# Altium schematic symbol library composants passifs.SchLib: 55 symbols
Pins are listed as number, name and electrical type; pins without a type are passive.

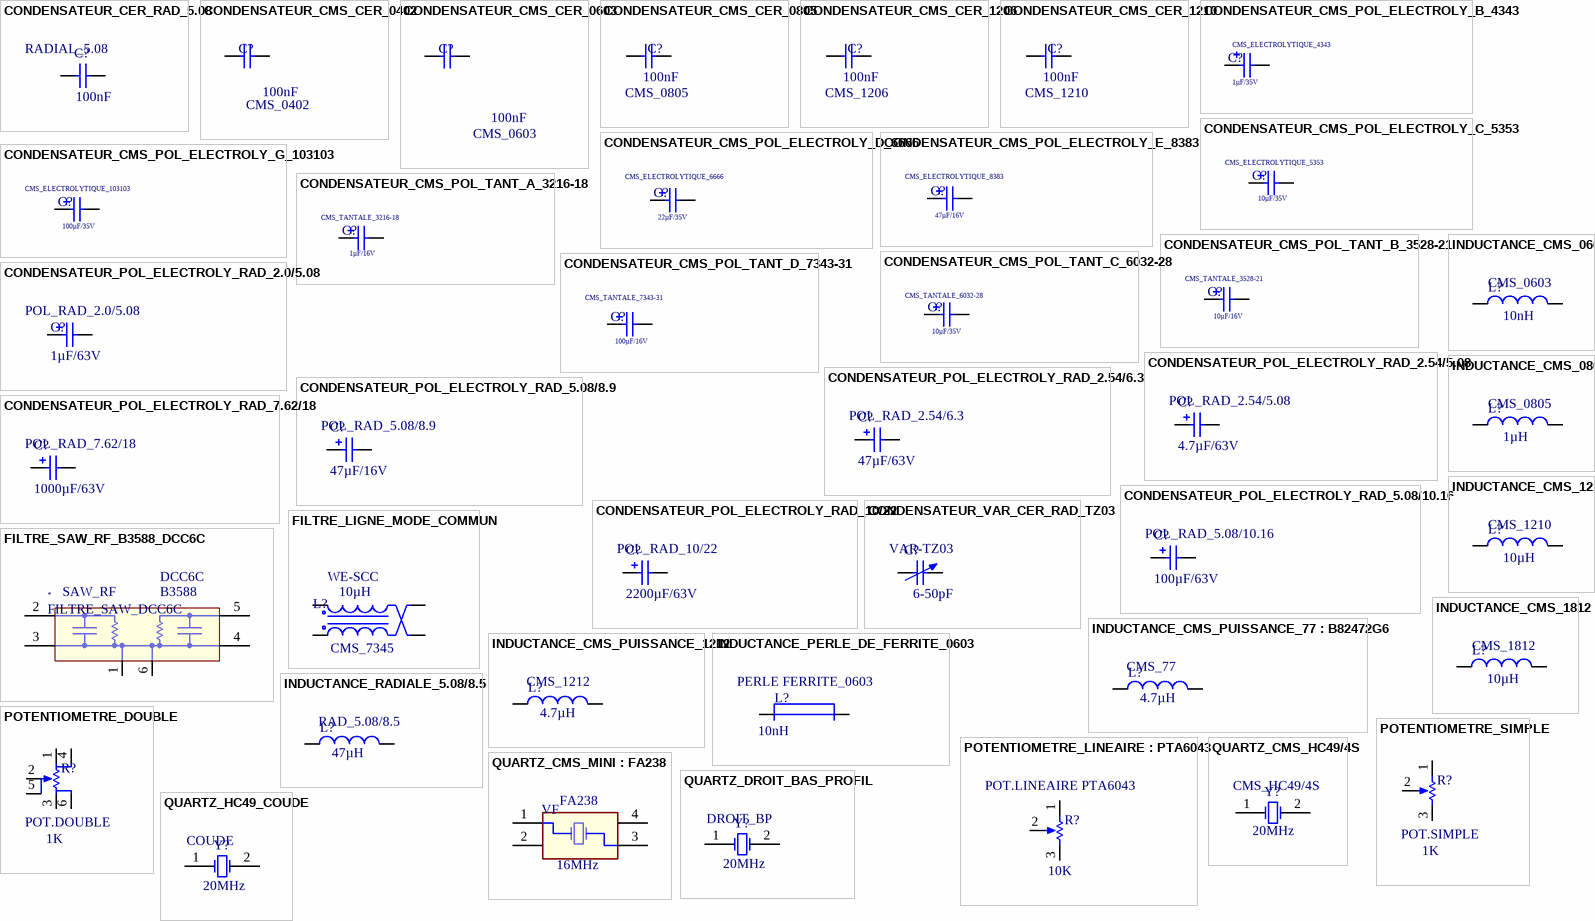
[diagram p0: symbols CONDENSATEUR_CER_RAD_5.08 to QUARTZ_HC49_COUDE]

## CONDENSATEUR_CER_RAD_5.08
designator C?  value 100nF  Type: RADIAL_5.08  (hidden comment: CONDENSATEUR_CER_RAD_5.08)
CONDENSATEUR TRAVERSANT CERAMIQUE RADIAL 5.08mm
simulation model CAP (Capacitor)
signal-integrity model Cap
footprint CONDENSATEUR_CERAMIQUE_RADIAL_5.08 (CONDENSATEUR TRAVERSANT CERAMIQUE RADIAL ; DIMENSIONS : 3.17mm x 5.08mm)
pins: 1, 2

## CONDENSATEUR_CMS_CER_0402
designator C?, comment value 100nF  (hidden comment: CMS_0402)
CONDENSATEUR CMS CERAMIQUE 0402; Type: CMS_0402
simulation model CAP (Capacitor)
signal-integrity model Cap
footprint CONDENSATEUR_CMS_0402 (CONDENSATEUR CMS  0402 ; DIMENSIONS : 1mm x 0.5mm)
pins: 1, 2

## CONDENSATEUR_CMS_CER_0603
designator C?, comment value 100nF  (hidden comment: CMS_0603)
CONDENSATEUR CMS CERAMIQUE 0603; Type: CMS_0603
simulation model CAP (Capacitor)
signal-integrity model Cap
footprint CONDENSATEUR_CMS_0603 (CONDENSATEUR CMS 0603 ; DIMENSIONS : 1.6mm x 0.86mm)
pins: 1, 2

## CONDENSATEUR_CMS_CER_0805
designator C?, comment value 100nF  (hidden comment: CMS_0805)
CONDENSATEUR CMS CERAMIQUE 0805; Type: CMS_0805
simulation model CAP (Capacitor)
signal-integrity model Cap
footprint CONDENSATEUR_CMS_0805 (CONDENSATEUR CMS 0805 ; DIMENSIONS : 2mm x 1.25mm)
footprint C0805_N (Chip Capacitor, Body 2.0x1.3mm, IPC Medium Density)
pins: 1, 2

## CONDENSATEUR_CMS_CER_1206
designator C?, comment value 100nF  (hidden comment: CMS_1206)
CONDENSATEUR CMS CERAMIQUE 1206; Type: CMS_1206
simulation model CAP (Capacitor)
signal-integrity model Cap
footprint CONDENSATEUR_CMS_1206 (CONDENSATEUR CMS 1206 ; DIMENSIONS : 3.2mm x 1.6mm)
pins: 1, 2

## CONDENSATEUR_CMS_CER_1210
designator C?, comment value 100nF  (hidden comment: CMS_1210)
CONDENSATEUR CMS CERAMIQUE 1210; Type: CMS_1210
simulation model CAP (Capacitor)
signal-integrity model Cap
footprint CONDENSATEUR_CMS_1210 (CONDENSATEUR CMS 1210 ; DIMENSIONS : 3.2mm x 2.5mm)
pins: 1, 2

## CONDENSATEUR_CMS_POL_ELECTROLY_B_4343
designator C?, comment value 1µF/35V  Type: CMS_ELECTROLYTIQUE_4343  (hidden comment: CMS_POLARISE_ELECTROLYTIQUE_B)
CONDENSATEUR CMS POLARISE ELECTROLYTIQUE BOITIER B/4343
simulation model CAP (Capacitor)
signal-integrity model Cap Pol
footprint CONDENSATEUR_CMS_POLARISE_ELECTROLYTIQUE_B/4343 (CONDENSATEUR CMS POLARISE ELECTROLYTIQUE B : 4.3mm x 4.3mm ; DIAMETRE : 4mm ; ESPACEMENT BROCHES : 4.3mm)
pins: 1, 2
1 alternate drawing of the same symbol

## CONDENSATEUR_CMS_POL_ELECTROLY_C_5353
designator C?, comment value 10µF/35V  Type: CMS_ELECTROLYTIQUE_5353  (hidden comment: CMS_POLARISE_ELECTROLYTIQUE_C)
CONDENSATEUR CMS POLARISE ELECTROLYTIQUE BOITIER C/5353
simulation model CAP (Capacitor)
signal-integrity model Cap Pol
footprint CONDENSATEUR_CMS_POLARISE_ELECTROLYTIQUE_C/5353 (CONDENSATEUR CMS POLARISE ELECTROLYTIQUE BOITIER C : 5.3mm x 5.3mm ; DIAMETRE : 4mm ; ESPACEMENT BROCHES : 4.9mm)
pins: 1, 2
1 alternate drawing of the same symbol

## CONDENSATEUR_CMS_POL_ELECTROLY_D_6666
designator C?, comment value 22µF/35V  Type: CMS_ELECTROLYTIQUE_6666  (hidden comment: CMS_POLARISE_ELECTROLYTIQUE_D)
CONDENSATEUR CMS POLARISE ELECTROLYTIQUE BOITIER D/6666
simulation model CAP (Capacitor)
signal-integrity model Cap Pol
footprint CONDENSATEUR_CMS_POLARISE_ELECTROLYTIQUE_D/6666 (CONDENSATEUR CMS POLARISE ELECTROLYTIQUE BOITIER D : 6.6mm x 6.6mm ; DIAMTRE : 6.3mm ; ESPACEMENT BROCHES : 5.7mm)
pins: 1, 2
1 alternate drawing of the same symbol

## CONDENSATEUR_CMS_POL_ELECTROLY_E_8383
designator C?, comment value 47µF/16V  Type: CMS_ELECTROLYTIQUE_8383  (hidden comment: CMS_POLARISE_ELECTROLYTIQUE_E)
CONDENSATEUR CMS POLARISE ELECTROLYTIQUE BOITIER E/8383
simulation model CAP (Capacitor)
signal-integrity model Cap Pol
footprint CONDENSATEUR_CMS_POLARISE_ELECTROLYTIQUE_E/8383 (CONDENSATEUR CMS POLARISE ELECTROLYTIQUE BOITIER E : 8.3mm x 8.3mm ; DIAMETRE : 8mm ; ESPACEMENT BROCHES : 7.62mm)
pins: 1, 2
1 alternate drawing of the same symbol

## CONDENSATEUR_CMS_POL_ELECTROLY_G_103103
designator C?, comment value 100µF/35V  Type: CMS_ELECTROLYTIQUE_103103  (hidden comment: CMS_POLARISE_ELECTROLYTIQUE_G)
CONDENSATEUR CMS POLARISE ELECTROLYTIQUE BOITIER G/103103
simulation model CAP (Capacitor)
signal-integrity model Cap Pol
footprint CONDENSATEUR_CMS_POLARISE_ELECTROLYTIQUE_G/103103 (CONDENSATEUR CMS POLARISE ELECTROLYTIQUE BOITIER G : 10.3mm x 10.3mm ; DIAMETRE : 8mm ; ESPACEMENT BROCHES : 7.62mm)
pins: 1, 2
1 alternate drawing of the same symbol

## CONDENSATEUR_CMS_POL_TANT_A_3216-18
designator C?, comment value 1µF/16V  Type: CMS_TANTALE_3216-18  (hidden comment: CMS_POLARISE_TANTALE_3216-18)
CONDENSATEUR CMS POLARISE TANTALE BOITIER A/3216-18
simulation model CAP (Capacitor)
signal-integrity model Cap Pol
footprint CONDENSATEUR_CMS_POLARISE_TANTALE_A/3216-18 (CONDENSATEUR CMS POLARISE TANTALE BOITIER A ; DIMENSIONS : 3.2mm x 1.6mm)
pins: 1, 2
1 alternate drawing of the same symbol

## CONDENSATEUR_CMS_POL_TANT_B_3528-21
designator C?, comment value 10µF/16V  Type: CMS_TANTALE_3528-21  (hidden comment: CMS_POLARISE_TANTALE_3528-21)
CONDENSATEUR CMS POLARISE TANTALE BOITIER B/3528-21
simulation model CAP (Capacitor)
signal-integrity model Cap Pol
footprint CONDENSATEUR_CMS_POLARISE_TANTALE_B/3528-21 (CONDENSATEUR CMS POLARISE TANTALE BOITIER B ; DIMENSIONS : 3.5mm x 2.8mm)
pins: 1, 2
1 alternate drawing of the same symbol

## CONDENSATEUR_CMS_POL_TANT_C_6032-28
designator C?, comment value 10µF/35V  Type: CMS_TANTALE_6032-28  (hidden comment: CMS_POLARISE_TANTALE_6032-28)
CONDENSATEUR CMS POLARISE TANTALE BOITIER C/6032-28
simulation model CAP (Capacitor)
signal-integrity model Cap Pol
footprint CONDENSATEUR_CMS_POLARISE_TANTALE_C/6032-28 (CONDENSATEUR CMS POLARISE TANTALE BOITIER C ; DIMENSIONS : 6mm x 3.2mm)
pins: 1, 2
1 alternate drawing of the same symbol

## CONDENSATEUR_CMS_POL_TANT_D_7343-31
designator C?, comment value 100µF/16V  Type: CMS_TANTALE_7343-31  (hidden comment: CMS_POLARISE_TANTALE_7343-31)
CONDENSATEUR CMS POLARISE TANTALE BOITIER D/7343-31
simulation model CAP (Capacitor)
footprint CONDENSATEUR_CMS_POLARISE_TANTALE_D/7343-31 (CONDENSATEUR CMS POLARISE TANTALE BOITIER D ; DIMENSIONS : 7.3mm x 4.3mm)
pins: 1, 2
1 alternate drawing of the same symbol

## CONDENSATEUR_POL_ELECTROLY_RAD_2.0/5.08
designator C?  value 1µF/63V  Type: POL_RAD_2.0/5.08  (hidden comment: CONDENSATEUR_POL_ELECTROLY_RAD_2.0/5.08)
CONDENSATEUR POLARISE ELECTROLYTIQUE RADIAL 2.0/5.08
simulation model CAP (Capacitor)
signal-integrity model Cap Pol
footprint CONDENSATEUR_POLARISE_ELECTROLYTIQUE_RADIAL_2.0/5.08 (CONDENSATEUR POLARISE ELECTROLYTIQUE RADIAL ; DIAMETRE : 5.08mm ; ESPACEMENT BROCHES : 2mm)
pins: 1, 2
1 alternate drawing of the same symbol

## CONDENSATEUR_POL_ELECTROLY_RAD_2.54/5.08
designator C?  value 4.7µF/63V  Type: POL_RAD_2.54/5.08  (hidden comment: CONDENSATEUR_POL_ELECTROLY_RAD_2.54/5.08)
CONDENSATEUR POLARISE ELECTROLYTIQUE RADIAL 2.54/5.08
simulation model CAP (Capacitor)
signal-integrity model Cap Pol
footprint CONDENSATEUR_POLARISE_ELECTROLYTIQUE_RADIAL_2.54/5.08 (CONDENSATEUR_POLARISE_ELECTROLYTIQUE_RADIAL ; DIAMETRE : 5.08mm ; ESPACEMENT BROCHES : 2.54mm)
pins: 1, 2
1 alternate drawing of the same symbol

## CONDENSATEUR_POL_ELECTROLY_RAD_2.54/6.3
designator C?  value 47µF/63V  Type: POL_RAD_2.54/6.3  (hidden comment: CONDENSATEUR_POL_ELECTROLY_RAD_2.54/6.3)
CONDENSATEUR POLARISE ELECTROLYTIQUE RADIAL 2.54/6.3
simulation model CAP (Capacitor)
signal-integrity model Cap Pol
footprint CONDENSATEUR_POLARISE_ELECTROLYTIQUE_RADIAL_2.54/6.3 (CONDENSATEUR POLARISE ELECTROLYTIQUE RADIAL ; DIAMETRE : 6.35mm ; ESPACEMENT BROCHES : 2.54mm)
pins: 1, 2
1 alternate drawing of the same symbol

## CONDENSATEUR_POL_ELECTROLY_RAD_5.08/8.9
designator C?  value 47µF/16V  Type: POL_RAD_5.08/8.9  (hidden comment: CONDENSATEUR_POL_ELECTROLY_RAD_5.08/8.9)
CONDENSATEUR POLARISE ELECTROLYTIQUE RADIAL 5.08/8.9
signal-integrity model Cap Pol
footprint CONDENSATEUR_POLARISE_ELECTROLYTIQUE_RADIAL_5.08/8.9 (CONDENSATEUR_POLARISE_ELECTROLYTIQUE_RADIAL ; DIAMETRE : 8.9mm ; ESPACEMENT BROCHES : 5.08mm)
pins: 1, 2
1 alternate drawing of the same symbol

## CONDENSATEUR_POL_ELECTROLY_RAD_5.08/10.16
designator C?  value 100µF/63V  Type: POL_RAD_5.08/10.16  (hidden comment: CONDENSATEUR_POL_ELECTROLY_RAD_5.08/10.16)
CONDENSATEUR POLARISE ELECTROLYTIQUE RADIAL 5.08/10.16
simulation model CAP (Capacitor)
signal-integrity model Cap Pol
footprint CONDENSATEUR_POLARISE_ELECTROLYTIQUE_RADIAL_5.08/10.16 (CONDENSATEUR POLARISE ELECTROLYTIQUE RADIAL ; DIAMETRE : 10.16mm ; ESPACEMENT BROCHES : 5.08mm)
pins: 1, 2
1 alternate drawing of the same symbol

## CONDENSATEUR_POL_ELECTROLY_RAD_7.62/18
designator C?  value 1000µF/63V  Type: POL_RAD_7.62/18  (hidden comment: CONDENSATEUR_POL_ELECTROLY_RAD_7.62/18)
CONDENSATEUR POLARISE ELECTROLYTIQUE RADIAL 7.62/18
simulation model CAP (Capacitor)
signal-integrity model Cap Pol
footprint CONDENSATEUR_POLARISE _ELECTROLYTIQUE_RADIAL_7.62/18 (CONDENSATEUR POLARISE ELECTROLYTIQUE RADIAL ; DIAMETRE : 17.78mm ; ESPACEMENT BROCHES : 7.62mm)
pins: 1, 2
1 alternate drawing of the same symbol

## CONDENSATEUR_POL_ELECTROLY_RAD_10/22
designator C?  value 2200µF/63V  Type: POL_RAD_10/22  (hidden comment: CONDENSATEUR_POL_ELECTROLY_RAD_10/22)
CONDENSATEUR POLARISE ELECTROLYTIQUE RADIAL 10/22
simulation model CAP (Capacitor)
signal-integrity model Cap Pol
footprint CONDENSATEUR_POLARISE_ELECTROLYTIQUE_RADIAL_10/22 (CONDENSATEUR POLARISE ELECTROLYTIQUE RADIAL ; DIAMETRE : 22mm ; ESPACEMENT BROCHES : 10mm)
pins: 1, 2
1 alternate drawing of the same symbol

## CONDENSATEUR_VAR_CER_RAD_TZ03
designator C?  value 6-50pF  Type: VAR-TZ03  (hidden comment: CONDENSATEUR_VAR_CER_RAD_TZ03)
CONDENSATEUR VARIABLE CERAMIQUE RADIAL SERIE TZ03
signal-integrity model Cap Var
footprint CONDENSATEUR_VARIABLE_CERAMIQUE_RADIAL_TZ03 (CONDENSATEUR VARIABLE CERAMIQUE RADIAL TZ03 ; SERIE TZ03 ; ESPACEMENT BROCHES : 5mm)
pins: 1, 2

## FILTRE_LIGNE_MODE_COMMUN
designator L?, comment value 10µH  Package: CMS_7345  Type: WE-SCC  (hidden comment: FILTRE DE LIGNE MODE COMMUN)
FILTRE DE LIGNE MODE COMMUN WE-SCC
simulation model INDUCTOR (Inductor)
signal-integrity model Inductor
pins: 1, 2, 3, 4

## FILTRE_SAW_RF_B3588_DCC6C
designator *, comment FILTRE_SAW_DCC6C  Model: B3588  Package: DCC6C  Type: SAW_RF
FILTRE SAW RF B3588 DCC6C
pins: 1, 2, 3, 4, 5, 6

## INDUCTANCE_CMS_0603
designator L?  value 10nH  Type: CMS_0603  (hidden comment: INDUCTANCE_CMS_0603)
INDUCTANCE CMS 0603
simulation model INDUCTOR (Inductor)
signal-integrity model Inductor
footprint INDUCTANCE_CMS_0603 (INDUCTANCE CMS 0603 ; DIMENSIONS : 1.6mm x 0.8mm)
pins: 1, 2

## INDUCTANCE_CMS_0805
designator L?  value 1µH  Type: CMS_0805  (hidden comment: INDUCTANCE_CMS_0805)
INDUCTANCE CMS 0805
simulation model INDUCTOR (Inductor)
signal-integrity model Inductor
footprint INDUCTANCE_CMS_0805 (INDUCTANCE CMS 0805 ; DIMENSIONS : 2mm x 1.25mm)
pins: 1, 2

## INDUCTANCE_CMS_1210
designator L?  value 10µH  Type: CMS_1210  (hidden comment: INDUCTANCE_CMS_1210)
INDUCTANCE CMS 1210
simulation model INDUCTOR (Inductor)
signal-integrity model Inductor
footprint INDUCTANCE_CMS_1206 (INDUCTANCE CMS 1206 ; DIMENSIONS : 3.2mm x 1.6mm)
pins: 1, 2

## INDUCTANCE_CMS_1812
designator L?  value 10µH  Type: CMS_1812  (hidden comment: INDUCTANCE_CMS_1812)
INDUCTANCE CMS 1812
simulation model INDUCTOR (Inductor)
signal-integrity model Inductor
footprint INDUCTANCE_CMS_1812 (INDUCTANCE CMS 1812 ; DIMENSIONS : 4.5mm x 3.2mm)
pins: 1, 2

## INDUCTANCE_CMS_PUISSANCE_77 : B82472G6
designator L?  value 4.7µH  Type: CMS_77  (hidden comment: INDUCTANCE_CMS_PUISSANCE_77 : B82472G6)
INDUCTANCE CMS DE PUISSANCE 77 : B82472G6
simulation model INDUCTOR (Inductor)
signal-integrity model Inductor
footprint INDUCTANCE_CMS_PUISSANCE_77 (INDUCTANCE CMS PUISSANCE 77 ; DIMENSIONS : 7.3mm x 7.3mm)
pins: 1, 2

## INDUCTANCE_CMS_PUISSANCE_1212
designator L?  value 4.7µH  Type: CMS_1212  (hidden comment: INDUCTANCE_CMS_PUISSANCE_1212)
INDUCTANCE CMS DE PUISSANCE (POWER CHOKE) 1212
simulation model INDUCTOR (Inductor)
signal-integrity model Inductor
footprint INDUCTANCE_CMS_PUISSANCE_1212 (INDUCTANCE CMS PUISSANCE 1212 ; DIMENSIONS : 12.3mm x 12.3mm)
pins: 1, 2

## INDUCTANCE_PERLE_DE_FERRITE_0603
designator L?  value 10nH  Type: PERLE FERRITE_0603  (hidden comment: INDUCTANCE_PERLE_DE_FERRITE_0603)
INDUCTANCE PERLE DE FERRITE_0603
simulation model INDUCTOR (Inductor)
signal-integrity model Inductor
footprint INDUCTANCE_CMS_0603 (INDUCTANCE CMS 0603 ; DIMENSIONS : 1.6mm x 0.8mm)
pins: 1, 2

## INDUCTANCE_RADIALE_5.08/8.5
designator L?  value 47µH  Type: RAD_5.08/8.5  (hidden comment: INDUCTANCE_RADIALE_5.08/8.5)
INDUCTANCE RADIALE 5.08/8.5
simulation model INDUCTOR (Inductor)
signal-integrity model Inductor
footprint INDUCTANCE_RAD_5.08/8.5 (INDUCTANCE RADIALE TRAVERSANTE ; DIAMETRE : 8.5mm ; ESPACEMENT BROCHES : 5.08mm)
pins: 1, 2

## POTENTIOMETRE_DOUBLE
designator R?  value 1K  Type: POT.DOUBLE  (hidden comment: POTENTIOMETRE_DOUBLE)
POTENTIOMETRE DOUBLE MONOTOUR
footprint POTENTIOMETRE_DOUBLE (POTENTIOMETRE DOUBLE ; ESPACEMENT RANGEES : 10.16mm ; ESPACEMENT BROCHES : 5mm)
pins: 1, 2, 3, 4, 5, 6
1 alternate drawing of the same symbol

## POTENTIOMETRE_LINEAIRE : PTA6043
designator R?  value 10K  Type: POT.LINEAIRE PTA6043  (hidden comment: POTENTIOMETRE_LINEAIRE : PTA6043)
POTENTIOMETRE LINEAIRE : PTA6043
footprint POTENTIOMETRE_SLIDE_LINEAIRE_PTA6043 (POTENTIOMETRE SLIDE LINEAIRE PTA6043 ; BAS PROFIL ; DIMENSIONS : 75mm x 9mm)
pins: 1, 2, 3
1 alternate drawing of the same symbol

## POTENTIOMETRE_SIMPLE
designator R?  value 1K  Type: POT.SIMPLE  (hidden comment: POTENTIOMETRE_SIMPLE)
POTENTIOMETRE SIMPLE MONOTOUR
footprint POTENTIOMETRE_SIMPLE (POTENTIOMETRE SIMPLE MONOTOUR ; ESPACEMENT BROCHES : 5mm)
pins: 1, 2, 3
1 alternate drawing of the same symbol

## QUARTZ_CMS_HC49/4S
designator Y?  value 20MHz  Type: CMS_HC49/4S  (hidden comment: QUARTZ_CMS_HC49/4S)
QUARTZ CMS HC49/4S
simulation model XTAL (Spice Subcircuit)
footprint QUARTZ_CMS_HC49/4S (QUARTZ CMS HC49 ;  DIMENSIONS : 11.4mm x 4.9mm ; ESPACEMENT BROCHES : 9.5mm)
pins: 1 OSC1, 2 OSC2

## QUARTZ_CMS_MINI : FA238
designator VF  value 16MHz  Type: FA238  (hidden comment: QUARTZ_CMS_MINI : FA238)
QUARTZ CMS MINI : FA238
simulation model XTAL (Spice Subcircuit)
footprint QUARTZ_CMS_FA238_4PLOTS (QUARTZ CMS ; DIMENSIONS : 2.5mm x 3.2mm ; ESPACEMENT BROCHES : 2.2mm)
pins: 1 OSC1, 2 GND, 3 OSC2, 4 GND

## QUARTZ_DROIT_BAS_PROFIL
designator Y?  value 20MHz  Type: DROIT_BP  (hidden comment: QUARTZ_DROIT_BAS_PROFIL)
QUARTZ DROIT BAS PROFIL
simulation model XTAL (Spice Subcircuit)
footprint QUARTZ_DROIT_BP (QUARTZ DROIT BAS PROFIL ; DIMENSIONS : 11.43mm x 4.82mm ; ESPACEMENT BROCHES : 4.82mm)
pins: 1 OSC1, 2 OSC2

## QUARTZ_HC49_COUDE
designator Y?  value 20MHz  Type: COUDE  (hidden comment: QUARTZ_HC49_COUDE)
QUARTZ HC49 COUDE
simulation model XTAL (Spice Subcircuit)
footprint QUARTZ_HC49_COUDE (QUARTZ HC49 COUDE ; DIMENSIONS : 13.84mm x 11.43mm ; ESPACEMENT BROCHES : 4.82mm)
pins: 1 OSC1, 2 OSC2

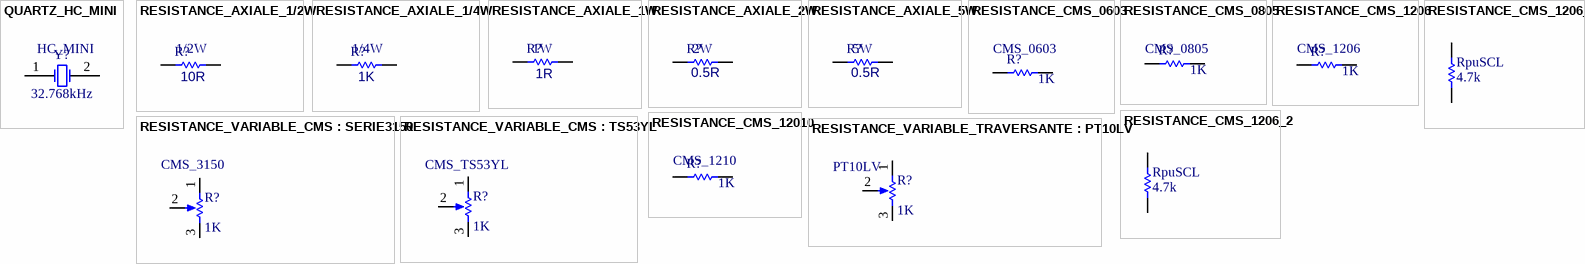
[diagram p1: symbols QUARTZ_HC_MINI to RESISTANCE_VARIABLE_TRAVERSANTE : PT10LV]

## QUARTZ_HC_MINI
designator Y?  value 32.768kHz  Type: HC_MINI  (hidden comment: QUARTZ_HC_MINI)
QUARTZ HC MINI
simulation model XTAL (Spice Subcircuit)
footprint Model Name (Footprint not found)
footprint QUARTZ_HC_MINI_COUDE (QUARTZ CYLINDRIQUE FAIBLE FREQUENCE HC MINI ; DIMENSIONS : 8.25mm x 3.8mm ; ESPACEMENT BROCHES : 2.54 mm)
pins: 1 OSC1, 2 OSC2

## RESISTANCE_AXIALE_1/2W
designator R?  value 10R  Type: 1/2W  (hidden comment: RESISTANCE_AXIALE_1/2W)
RESISTANCE TRAVERSANTE AXIALE 1/2W
simulation model RESISTOR (Resistor)
signal-integrity model Res
footprint RESISTANCE_1/2W (RESISTANCE TRAVERSANTE 0.5W ; DIAMETRE : 3.8mm ; LONGUEUR : 10.16mm ; PAS : 15.24mm)
pins: 1, 2

## RESISTANCE_AXIALE_1/4W
designator R?  value 1K  Type: 1/4W  (hidden comment: RESISTANCE_AXIALE_1/4W)
RESISTANCE TRAVERSANTE AXIALE 1/4W
simulation model RESISTOR (Resistor)
signal-integrity model Res
footprint RESISTANCE_1/4W (RESISTANCE 0.25W; DIAMETRE : 2.54mm ; LONGUEUR : 6.35mm ; PAS : 10.16mm)
pins: 1, 2

## RESISTANCE_AXIALE_1W
designator R?  value 1R  Type: 1W  (hidden comment: RESISTANCE_AXIALE_1W)
RESISTANCE TRAVERSANTE AXIALE 1W
simulation model RESISTOR (Resistor)
signal-integrity model Res
footprint RESISTANCE_1W (RESISTANCE 1W ; DIAMETRE : 5.08mm ; LONGUEUR : 12mm ; PAS : 17.78mm)
pins: 1, 2

## RESISTANCE_AXIALE_2W
designator R?  value 0.5R  Type: 2W  (hidden comment: RESISTANCE_AXIALE_2W)
RESISTANCE TRAVERSANTE AXIALE 2W
simulation model RESISTOR (Resistor)
signal-integrity model Res
footprint RESISTANCE_2W (RESISTANCE 2W; DIAMETRE : 5.5mm ; LONGUEUR : 16mm ; PAS : 22mm)
pins: 1, 2

## RESISTANCE_AXIALE_5W
designator R?  value 0.5R  Type: 5W  (hidden comment: RESISTANCE_AXIALE_5W)
RESISTANCE TRAVERSANTE AXIALE 5W
simulation model RESISTOR (Resistor)
signal-integrity model Res
footprint RESISTANCE_5W (RESISTANCE 5W ; DIAMETRE : 8.5mm ; LONGUEUR : 26mm ; PAS : 2mm)
pins: 1, 2

## RESISTANCE_CMS_0603
designator R?  value 1K  Type: CMS_0603  (hidden comment: RESISTANCE_CMS_0603)
RESISTANCE CMS 0603
simulation model RESISTOR (Resistor)
signal-integrity model Res
footprint RESISTANCE_CMS_0603 (RESISTANCE CMS 0603 ; DIMENSIONS : 1.6mm x 0.8mm)
pins: 1, 2

## RESISTANCE_CMS_0805
designator R?  value 1K  Type: CMS_0805  (hidden comment: RESISTANCE_CMS_0805)
RESISTANCE CMS 0805
simulation model RESISTOR (Resistor)
signal-integrity model Res
footprint RESISTANCE_CMS_0805 (RESISTANCE CMS 0805 ; DIMENSIONS : 2mm x 1.25mm)
pins: 1, 2

## RESISTANCE_CMS_1206
designator R?  value 1K  Type: CMS_1206  (hidden comment: RESISTANCE_CMS_1206)
RESISTANCE CMS 1206
simulation model RESISTOR (Resistor)
signal-integrity model Res
footprint RESISTANCE_CMS_1206 (RESISTANCE CMS 1206 ; DIMENSIONS : 3.2mm x 1.6mm)
footprint R1206_N (Chip Resistor, Body 3.2x1.6mm, IPC Medium Density)
pins: 1, 2

## RESISTANCE_CMS_1206_1
designator RpuSCL, comment value 4.7k  (hidden comment: RESISTANCE_CMS_1206)
RESISTANCE CMS 1206; Type: CMS_1206
simulation model RESISTOR (Resistor)
signal-integrity model Res
footprint RESISTANCE_CMS_1206 (RESISTANCE CMS 1206 ; DIMENSIONS : 3.2mm x 1.6mm)
footprint R1206_N (Chip Resistor, Body 3.2x1.6mm, IPC Medium Density)
pins: 1, 2

## RESISTANCE_CMS_1206_2
designator RpuSCL, comment value 4.7k  (hidden comment: RESISTANCE_CMS_1206)
RESISTANCE CMS 1206; Type: CMS_1206
simulation model RESISTOR (Resistor)
signal-integrity model Res
footprint RESISTANCE_CMS_1206 (RESISTANCE CMS 1206 ; DIMENSIONS : 3.2mm x 1.6mm)
footprint R1206_N (Chip Resistor, Body 3.2x1.6mm, IPC Medium Density)
pins: 1, 2

## RESISTANCE_CMS_12010
designator R?, comment value 1K  Type: CMS_1210  (hidden comment: RESISTANCE_CMS_1210)
RESISTANCE CMS 1210
simulation model RESISTOR (Resistor)
signal-integrity model Res
footprint RESISTANCE_CMS_1210 (RESISTANCE CMS 1210 ; DIMENSIONS : 3.2mm x 2.6mm)
pins: 1, 2

## RESISTANCE_VARIABLE_CMS : SERIE3150
designator R?  value 1K  Type: CMS_3150  (hidden comment: RESISTANCE_VARIABLE_CMS : SERIE3150)
RESISTANCE VARIABLE_CMS : SERIE3150
simulation model POT (Potentiometer)
footprint TRIMMER_CMS_SERIE3150 (TRIMMER CMS SERIE 3150 ; DIMENSIONS : 3.4mm x 3.6mm)
pins: 1, 2, 3
1 alternate drawing of the same symbol

## RESISTANCE_VARIABLE_CMS : TS53YL
designator R?  value 1K  Type: CMS_TS53YL  (hidden comment: RESISTANCE_VARIABLE_CMS : TS53YL)
RESISTANCE VARIABLE_CMS : TS53YL
simulation model POT (Potentiometer)
footprint TRIMMER_CMS_TS53YL (TRIMMER CMS TS53YL ; DIMENSIONS : 6.2mm x 5mm ; ESPACEMENT BROCHES : 4.2mm ET 1mm)
pins: 1, 2, 3
1 alternate drawing of the same symbol

## RESISTANCE_VARIABLE_TRAVERSANTE : PT10LV
designator R?  value 1K  Type: PT10LV  (hidden comment: RESISTANCE_VARIABLE_TRAVERSANTE : PT10LV)
RESISTANCE VARIABLE_TRAVERSANTE : PT10LV
simulation model POT (Potentiometer)
footprint TRIMMER_MONOTOUR_PT10LV (RESISTANCE VARIABLE MONOTOUR  PT10LV; DIMENSIONS : 10.16mm x 5.08mm)
pins: 1, 2, 3
1 alternate drawing of the same symbol